# Altium schematic symbol library IND - LPS4018-333MRC.SchLib: 1 symbol
Pins are listed as number, name and electrical type; pins without a type are passive.

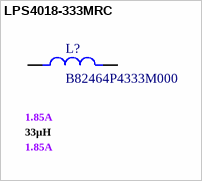
[diagram p0: symbol LPS4018-333MRC]

## LPS4018-333MRC
designator L?, comment B82464P4333M000  .RMS Current (Irms): 1.85A  .Value: 33µH
General Purpose Inductor, 33uH, 20%, 1 Element, Ferrite-Core, SMD, 1515; Manufacturer: EPCOS; Manufacturer Lifecycle Status: PRODUCTION; DC Resistance (DCR): 75mΩ; Value: 33µH; Number of Circuits: 1; Saturation Current: 2.1A; Shielding: Yes; Test Frequency: 100kHz; Current Rating: 260mA; Q Factor: 30; Self Resonant Frequency: 60MHz; Max Saturation Current: 450mA; Max Temperature Rise Current: 600mA; Temperature Rise Current: 650mA; Supplier: Mouser; Supplier Part Number: 871-B82464P4333M; Manufacturer Part Number: B82464P4333M000; RoHS: Compliant; Category: Fixed Inductors; Stock: 942; Pricing: 1=1,59, 10=1,31, 50=1,14, 100=1,08, 1000=0,885, 10000=0,775 (USD); Case/Package: SMD/SMT; Contact Plating: Tin; Core Material: Ferrite; DC Current: 1.85A; Depth: 10.4mm; Height: 4.8mm; Inductance Tolerance: 20%; Length: 10.4mm; Lifecycle Status: Production; Max Current Rating: 1.85A; Max DC Current: 1.85A; Max Length: 10.4mm; Max Operating Temperature: 150°C; Max Width: 10.4mm; Military Standard: Not; Min Operating Temperature: -55°C; Mounting Technology: Surface Mount; Number of Terminals: 2; REACH SVHC: Yes; RMS Current (Irms): 1.85A; Tolerance: 20%; Width: 10.4mm; ComponentLink1URL: https://datasheet.octopart.com:443/B82464P4333M000-EPCOS-datasheet-155394167.pdf?src-supplier=IHS; ComponentLink1Description: https://datasheet.octopart.com:443/B82464P4333M000-EPCOS-datasheet-155394167.pdf?src-supplier=IHS; ComponentLink2URL: https://datasheet.octopart.com:443/B82464P4333M000-EPCOS-datasheet-13705212.pdf?src-supplier=EPCOS; ComponentLink2Description: https://datasheet.octopart.com:443/B82464P4333M000-EPCOS-datasheet-13705212.pdf?src-supplier=EPCOS; ComponentLink3URL: https://datasheet.octopart.com:443/B82464P4333M000-EPCOS-datasheet-66576979.pdf?src-supplier=Newark; ComponentLink3Description: https://datasheet.octopart.com:443/B82464P4333M000-EPCOS-datasheet-66576979.pdf?src-supplier=Newark; ComponentLink4URL: https://datasheet.octopart.com:443/B82464P4333M000-EPCOS-datasheet-34142370.pdf?src-supplier=Newark; ComponentLink4Description: https://datasheet.octopart.com:443/B82464P4333M000-EPCOS-datasheet-34142370.pdf?src-supplier=Newark; ComponentLink5URL: https://datasheet.octopart.com:443/B82464P4333M000-EPCOS-datasheet-11522271.pdf?src-supplier=element14+APAC; ComponentLink5Description: https://datasheet.octopart.com:443/B82464P4333M000-EPCOS-datasheet-11522271.pdf?src-supplier=element14+APAC; Case Code (Imperial): 1210; Case Code (Metric): 3225; Composition: Wirewound; Height - Seated (Max): 2.3876mm; Lead Free: Lead Free; Min Length: 3mm; Min Width: 2.3mm; Schedule B: 8504500000, 8504500000|8504500000|8504500000|8504500000|8504500000; Termination: SMD/SMT; Weight: 50.008559mg; ComponentLink6URL: https://datasheet.octopart.com:443/NLV32T-3R3J-EF-TDK-datasheet-181268619.pdf?src-supplier=IHS; ComponentLink6Description: https://datasheet.octopart.com:443/NLV32T-3R3J-EF-TDK-datasheet-181268619.pdf?src-supplier=IHS; ComponentLink7URL: https://datasheet.octopart.com:443/NLV32T-3R3J-EF-TDK-datasheet-155380433.pdf?src-supplier=TDK; ComponentLink7Description: https://datasheet.octopart.com:443/NLV32T-3R3J-EF-TDK-datasheet-155380433.pdf?src-supplier=TDK; ComponentLink8URL: https://datasheet.octopart.com:443/NLV32T-3R3J-EF-TDK-datasheet-97126320.pdf?src-supplier=Newark; ComponentLink8Description: https://datasheet.octopart.com:443/NLV32T-3R3J-EF-TDK-datasheet-97126320.pdf?src-supplier=Newark; ComponentLink9URL: https://datasheet.octopart.com:443/NLV32T-3R3J-EF-TDK-datasheet-81471259.pdf?src-supplier=Newark; ComponentLink9Description: https://datasheet.octopart.com:443/NLV32T-3R3J-EF-TDK-datasheet-81471259.pdf?src-supplier=Newark; ComponentLink10URL: https://datasheet.octopart.com:443/NLV32T-3R3J-EF-TDK-datasheet-136874827.pdf?src-supplier=TME; ComponentLink10Description: https://datasheet.octopart.com:443/NLV32T-3R3J-EF-TDK-datasheet-136874827.pdf?src-supplier=TME; ComponentLink11URL: https://datasheet.octopart.com:443/NLV32T-3R3J-EF-TDK-datasheet-61115007.pdf?src-supplier=Future+Electronics; ComponentLink11Description: https://datasheet.octopart.com:443/NLV32T-3R3J-EF-TDK-datasheet-61115007.pdf?src-supplier=Future+Electronics; Packaging: Tape & Reel (TR); ComponentLink12URL: https://datasheet.octopart.com:443/MBKK1608T3R3M-Taiyo-Yuden-datasheet-181265470.pdf?src-supplier=IHS; ComponentLink12Description: https://datasheet.octopart.com:443/MBKK1608T3R3M-Taiyo-Yuden-datasheet-181265470.pdf?src-supplier=IHS; ComponentLink13URL: https://datasheet.octopart.com:443/MBKK1608T3R3M-Taiyo-Yuden-datasheet-154809596.pdf?src-supplier=Master+Electronics; ComponentLink13Description: https://datasheet.octopart.com:443/MBKK1608T3R3M-Taiyo-Yuden-datasheet-154809596.pdf?src-supplier=Master+Electronics; ComponentLink14URL: https://datasheet.octopart.com:443/MBKK1608T3R3M-Taiyo-Yuden-datasheet-168245478.pdf?src-supplier=Future+Electronics; ComponentLink14Description: https://datasheet.octopart.com:443/MBKK1608T3R3M-Taiyo-Yuden-datasheet-168245478.pdf?src-supplier=Future+Electronics; ComponentLink15URL: https://datasheet.octopart.com:443/MBKK1608T3R3M-Taiyo-Yuden-datasheet-140707427.pdf?src-supplier=Taiyo+Yuden+SCT; ComponentLink15Description: https://datasheet.octopart.com:443/MBKK1608T3R3M-Taiyo-Yuden-datasheet-140707427.pdf?src-supplier=Taiyo+Yuden+SCT; ComponentLink16URL: https://datasheet.octopart.com:443/LPS4018-333MRC-Coilcraft-datasheet-178522552.pdf?src-supplier=IHS; ComponentLink16Description: https://datasheet.octopart.com:443/LPS4018-333MRC-Coilcraft-datasheet-178522552.pdf?src-supplier=IHS; ComponentLink17URL: https://datasheet.octopart.com:443/LPS4018-333MRC-Coilcraft-datasheet-10791166.pdf?src-supplier=Coilcraft+Direct; ComponentLink17Description: https://datasheet.octopart.com:443/LPS4018-333MRC-Coilcraft-datasheet-10791166.pdf?src-supplier=Coilcraft+Direct; Supplier 1: Mouser; Supplier Part Number 1: 994-LPS4018-333MRC; .Max DC Current: 1.85A
footprint SRN4018-330M (Precision Wire Wound Inductor, 2-Leads, Body 4.00x4.00mm, IPC High Density)
pins: 1, 2